# EAGLE library part LM339 (library gost_micro)
LM339 Quad comparators
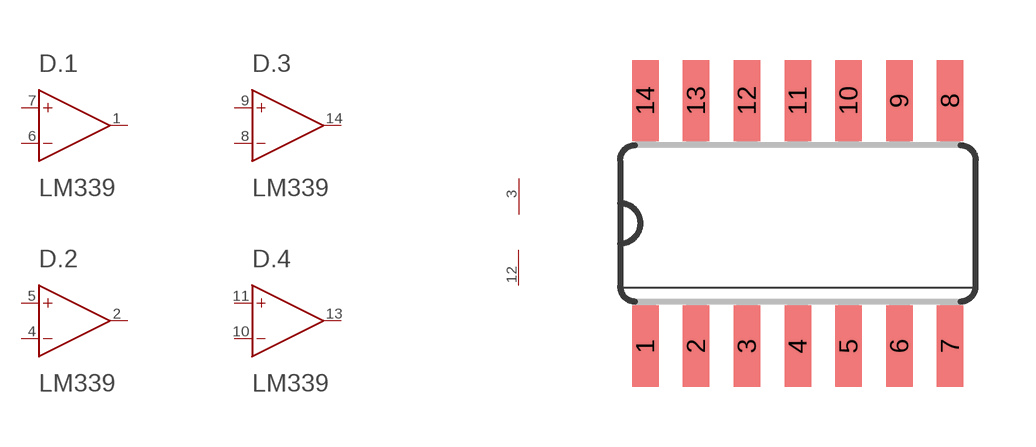
[diagram p19: symbol with the pads of SO14; footprint SO14]

Designator prefix D; gates .1=OPAMP .2=OPAMP .3=OPAMP .4=OPAMP G$5=OPAMP_P

## LM339D  [SO14]
1  .1:Q  out
2  .2:Q  out
3  G$5:P+
4  .2:-IN  in
5  .2:+IN  in
6  .1:-IN  in
7  .1:+IN  in
8  .3:-IN  in
9  .3:+IN  in
10  .4:-IN  in
11  .4:+IN  in
12  G$5:P-
13  .4:Q  out
14  .3:Q  out

## Footprint SO14 (pad centres in mm)
Small Outline package 150 mil
smd 0.66 x 2.032: 1 -3.81,-3.073; 2 -2.54,-3.073; 3 -1.27,-3.073; 4 0,-3.073; 5 1.27,-3.073; 6 2.54,-3.073; 7 3.81,-3.073; 8 3.81,3.073; 9 2.54,3.073; 10 1.27,3.073; 11 0,3.073; 12 -1.27,3.073; 13 -2.54,3.073; 14 -3.81,3.073